# Altium integrated library NSC LDO.IntLib: 1202 symbols (part 23 of 27)
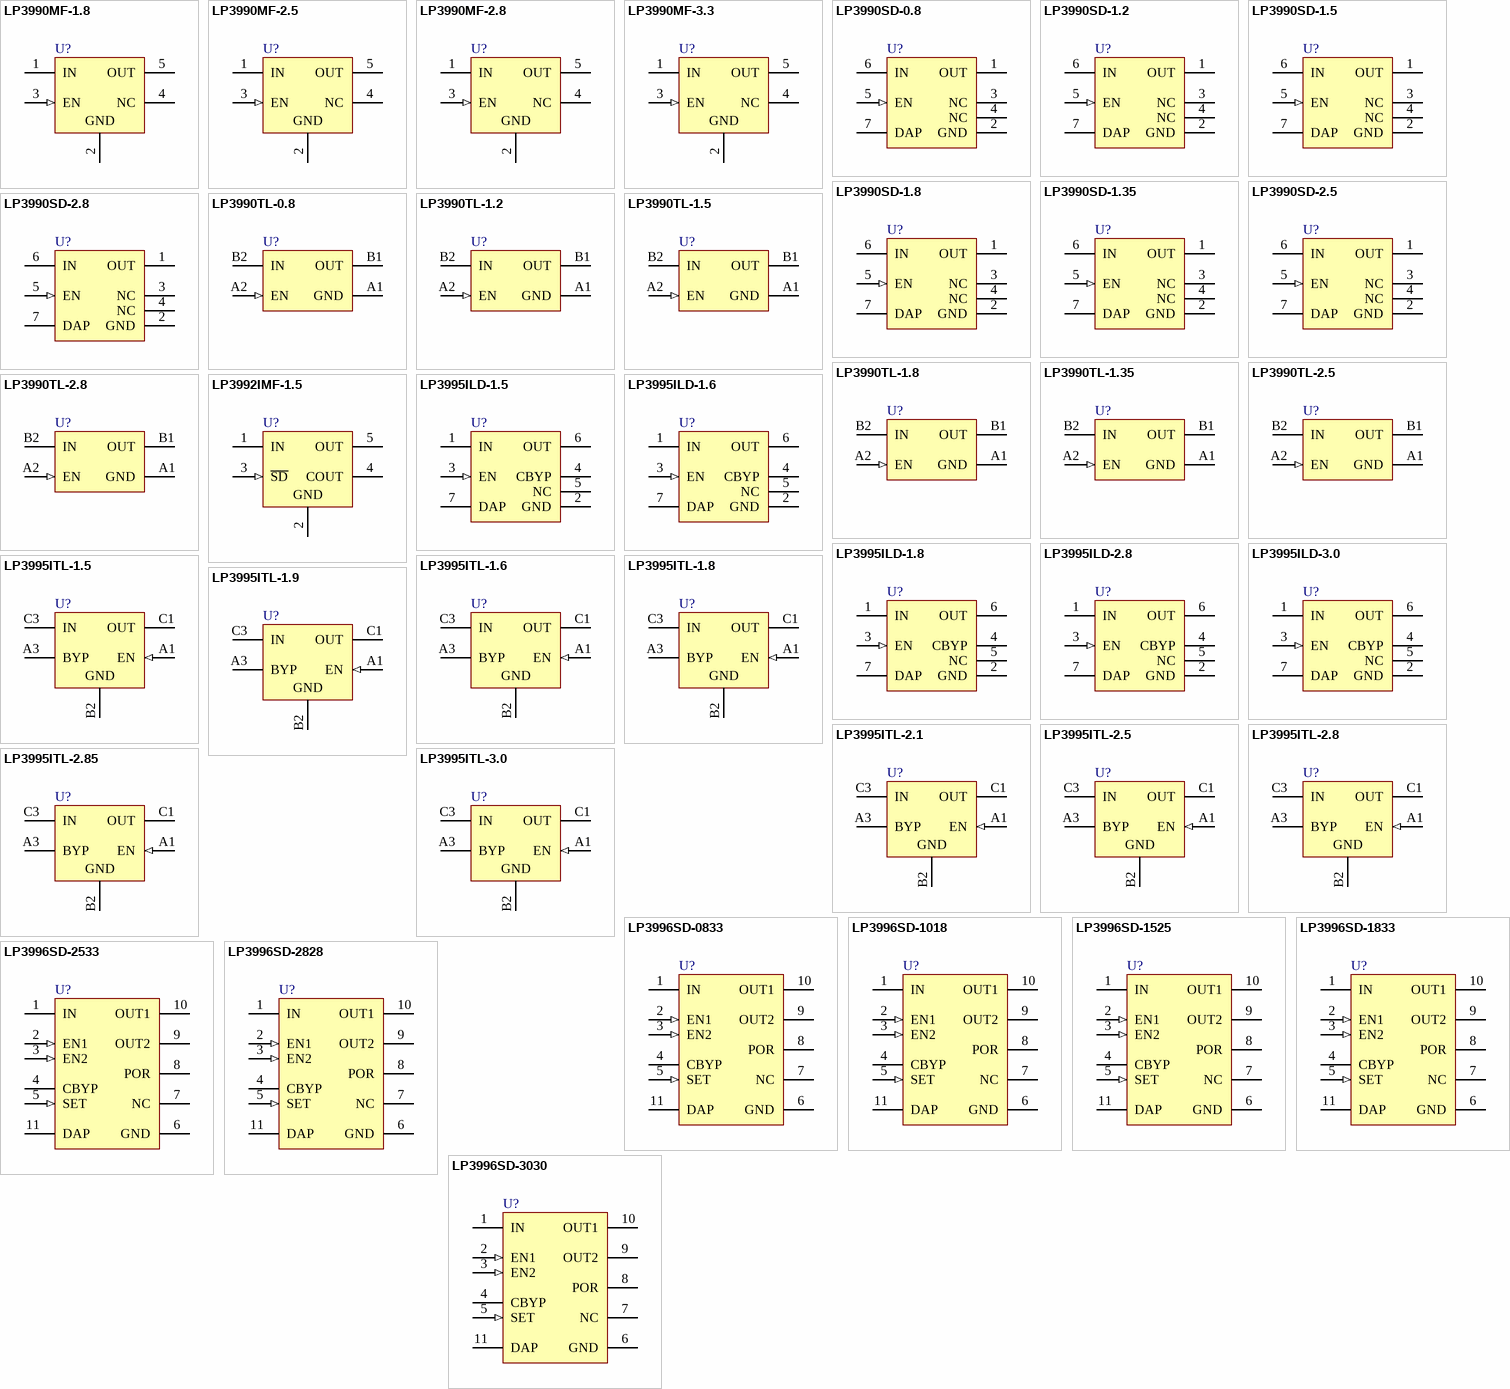
[diagram p52: symbols LP3990MF-1.8 to LP3996SD-3030]

## LP3995ITL-2.85
designator U?
Micropower 150mA CMOS Voltage Regulator with Active Shutdown.; PartNumber: LP3995ITL-2.85; Manufacturer: National Semiconductor; CompType: LDO IC; PackageTopMarking: XV*I 9; Published: 4-Dec-2008; DatasheetVersion: Jan-2008; PackageVersion: revC, Feb-2005; PackageReference: TLA05ADA; Publisher: Altium Limited; PackageDescription: Thin Micro SMD, 5 Bump (Large), 0.5mm Pitch; RoHS: Y; PinCount: 5; DigiKeyPartNumber: LP3995ITL-2.85CT-ND; ComponentLink1Description: LP3995 Datasheet; ComponentLink1URL: http://www.national.com/ds/LP/LP3995.pdf; ComponentLink2Description: LP3995 Web Page; ComponentLink2URL: http://www.national.com/pf/LP/LP3995.html; ComponentLink3Description: TLA05ADA Package Page; ComponentLink3URL: http://www.national.com/packaging/folders/tla05ada.html
footprint TLA05ADA (Micro SMD, 5-Leads, Body 1.45x1.01mm, Pitch 0.5mm, NSC Recommended)
pins: A1 EN (in), A3 BYP, B2 GND (power), C1 OUT (power), C3 IN (power)

## LP3995ITL-3.0
designator U?
Micropower 150mA CMOS Voltage Regulator with Active Shutdown.; PartNumber: LP3995ITL-3.0; Manufacturer: National Semiconductor; CompType: LDO IC; PackageTopMarking: XV*I 9; Published: 4-Dec-2008; DatasheetVersion: Jan-2008; PackageVersion: revC, Feb-2005; PackageReference: TLA05ADA; Publisher: Altium Limited; PackageDescription: Thin Micro SMD, 5 Bump (Large), 0.5mm Pitch; RoHS: Y; PinCount: 5; DigiKeyPartNumber: LP3995ITL-3.0CT-ND; ComponentLink1Description: LP3995 Datasheet; ComponentLink1URL: http://www.national.com/ds/LP/LP3995.pdf; ComponentLink2Description: LP3995 Web Page; ComponentLink2URL: http://www.national.com/pf/LP/LP3995.html; ComponentLink3Description: TLA05ADA Package Page; ComponentLink3URL: http://www.national.com/packaging/folders/tla05ada.html
footprint TLA05ADA (Micro SMD, 5-Leads, Body 1.45x1.01mm, Pitch 0.5mm, NSC Recommended)
pins: A1 EN (in), A3 BYP, B2 GND (power), C1 OUT (power), C3 IN (power)

## LP3996SD-0833
designator U?
Dual Linear Regulator with 300mA and 150mA Outputs and Power-On-Reset; PartNumber: LP3996SD-0833; Manufacturer: National Semiconductor; CompType: LDO IC; PackageTopMarking: ZXYTT*L167B; Published: 4-Dec-2008; DatasheetVersion: Jan-2008; PackageVersion: revA, Oct-2003; PackageReference: SDA10A; Publisher: Altium Limited; PackageDescription: LLP, Plastic, Dual, 3 x 3 x 0.8mm Body, 10 Lead, 0.5mm Pitch, No Pullback; RoHS: Y; PinCount: 10; DigiKeyPartNumber: LP3996SD-0833CT-ND; ComponentLink1Description: LP3996 Datasheet; ComponentLink1URL: http://www.national.com/ds/LP/LP3996.pdf; ComponentLink2Description: LP3996 Web Page; ComponentLink2URL: http://www.national.com/pf/LP/LP3996.html; ComponentLink3Description: SDA10A Package Page; ComponentLink3URL: http://www.national.com/packaging/folders/sda10a.html
footprint SDA10A (SON, 10-Leads, Body 3x3 mm, Pitch 0.5mm, NSC Recommended)
pins: 1 IN (power), 2 EN1 (in), 3 EN2 (in), 4 CBYP, 5 SET (in), 6 GND (power), 7 NC, 8 POR (oc), 9 OUT2 (power), 10 OUT1 (power), 11 DAP (power)

## LP3996SD-1018
designator U?
Dual Linear Regulator with 300mA and 150mA Outputs and Power-On-Reset; PartNumber: LP3996SD-1018; Manufacturer: National Semiconductor; CompType: LDO IC; PackageTopMarking: ZXYTT*L227B; Published: 4-Dec-2008; DatasheetVersion: Jan-2008; PackageVersion: revA, Oct-2003; PackageReference: SDA10A; Publisher: Altium Limited; PackageDescription: LLP, Plastic, Dual, 3 x 3 x 0.8mm Body, 10 Lead, 0.5mm Pitch, No Pullback; RoHS: Y; PinCount: 10; DigiKeyPartNumber: LP3996SD-1018-ND; ComponentLink1Description: LP3996 Datasheet; ComponentLink1URL: http://www.national.com/ds/LP/LP3996.pdf; ComponentLink2Description: LP3996 Web Page; ComponentLink2URL: http://www.national.com/pf/LP/LP3996.html; ComponentLink3Description: SDA10A Package Page; ComponentLink3URL: http://www.national.com/packaging/folders/sda10a.html
footprint SDA10A (SON, 10-Leads, Body 3x3 mm, Pitch 0.5mm, NSC Recommended)
pins: 1 IN (power), 2 EN1 (in), 3 EN2 (in), 4 CBYP, 5 SET (in), 6 GND (power), 7 NC, 8 POR (oc), 9 OUT2 (power), 10 OUT1 (power), 11 DAP (power)

## LP3996SD-1525
designator U?
Dual Linear Regulator with 300mA and 150mA Outputs and Power-On-Reset; PartNumber: LP3996SD-1525; Manufacturer: National Semiconductor; CompType: LDO IC; PackageTopMarking: ZXYTT*L168B; Published: 4-Dec-2008; DatasheetVersion: Jan-2008; PackageVersion: revA, Oct-2003; PackageReference: SDA10A; Publisher: Altium Limited; PackageDescription: LLP, Plastic, Dual, 3 x 3 x 0.8mm Body, 10 Lead, 0.5mm Pitch, No Pullback; RoHS: Y; PinCount: 10; DigiKeyPartNumber: LP3996SD-1525CT-ND; ComponentLink1Description: LP3996 Datasheet; ComponentLink1URL: http://www.national.com/ds/LP/LP3996.pdf; ComponentLink2Description: LP3996 Web Page; ComponentLink2URL: http://www.national.com/pf/LP/LP3996.html; ComponentLink3Description: SDA10A Package Page; ComponentLink3URL: http://www.national.com/packaging/folders/sda10a.html
footprint SDA10A (SON, 10-Leads, Body 3x3 mm, Pitch 0.5mm, NSC Recommended)
pins: 1 IN (power), 2 EN1 (in), 3 EN2 (in), 4 CBYP, 5 SET (in), 6 GND (power), 7 NC, 8 POR (oc), 9 OUT2 (power), 10 OUT1 (power), 11 DAP (power)

## LP3996SD-1833
designator U?
Dual Linear Regulator with 300mA and 150mA Outputs and Power-On-Reset; PartNumber: LP3996SD-1833; Manufacturer: National Semiconductor; CompType: LDO IC; PackageTopMarking: ZXYTT*L228B; Published: 4-Dec-2008; DatasheetVersion: Jan-2008; PackageVersion: revA, Oct-2003; PackageReference: SDA10A; Publisher: Altium Limited; PackageDescription: LLP, Plastic, Dual, 3 x 3 x 0.8mm Body, 10 Lead, 0.5mm Pitch, No Pullback; RoHS: Y; PinCount: 10; DigiKeyPartNumber: LP3996SD-1833-ND; ComponentLink1Description: LP3996 Datasheet; ComponentLink1URL: http://www.national.com/ds/LP/LP3996.pdf; ComponentLink2Description: LP3996 Web Page; ComponentLink2URL: http://www.national.com/pf/LP/LP3996.html; ComponentLink3Description: SDA10A Package Page; ComponentLink3URL: http://www.national.com/packaging/folders/sda10a.html
footprint SDA10A (SON, 10-Leads, Body 3x3 mm, Pitch 0.5mm, NSC Recommended)
pins: 1 IN (power), 2 EN1 (in), 3 EN2 (in), 4 CBYP, 5 SET (in), 6 GND (power), 7 NC, 8 POR (oc), 9 OUT2 (power), 10 OUT1 (power), 11 DAP (power)

## LP3996SD-2533
designator U?
Dual Linear Regulator with 300mA and 150mA Outputs and Power-On-Reset; PartNumber: LP3996SD-2533; Manufacturer: National Semiconductor; CompType: LDO IC; PackageTopMarking: ZXYTT*L229B; Published: 4-Dec-2008; DatasheetVersion: Jan-2008; PackageVersion: revA, Oct-2003; PackageReference: SDA10A; Publisher: Altium Limited; PackageDescription: LLP, Plastic, Dual, 3 x 3 x 0.8mm Body, 10 Lead, 0.5mm Pitch, No Pullback; RoHS: Y; PinCount: 10; DigiKeyPartNumber: LP3996SD-2533-ND; ComponentLink1Description: LP3996 Datasheet; ComponentLink1URL: http://www.national.com/ds/LP/LP3996.pdf; ComponentLink2Description: LP3996 Web Page; ComponentLink2URL: http://www.national.com/pf/LP/LP3996.html; ComponentLink3Description: SDA10A Package Page; ComponentLink3URL: http://www.national.com/packaging/folders/sda10a.html
footprint SDA10A (SON, 10-Leads, Body 3x3 mm, Pitch 0.5mm, NSC Recommended)
pins: 1 IN (power), 2 EN1 (in), 3 EN2 (in), 4 CBYP, 5 SET (in), 6 GND (power), 7 NC, 8 POR (oc), 9 OUT2 (power), 10 OUT1 (power), 11 DAP (power)

## LP3996SD-2828
designator U?
Dual Linear Regulator with 300mA and 150mA Outputs and Power-On-Reset; PartNumber: LP3996SD-2828; Manufacturer: National Semiconductor; CompType: LDO IC; PackageTopMarking: ZXYTT*L171B; Published: 4-Dec-2008; DatasheetVersion: Jan-2008; PackageVersion: revA, Oct-2003; PackageReference: SDA10A; Publisher: Altium Limited; PackageDescription: LLP, Plastic, Dual, 3 x 3 x 0.8mm Body, 10 Lead, 0.5mm Pitch, No Pullback; RoHS: Y; PinCount: 10; DigiKeyPartNumber: LP3996SD-2828CT-ND; ComponentLink1Description: LP3996 Datasheet; ComponentLink1URL: http://www.national.com/ds/LP/LP3996.pdf; ComponentLink2Description: LP3996 Web Page; ComponentLink2URL: http://www.national.com/pf/LP/LP3996.html; ComponentLink3Description: SDA10A Package Page; ComponentLink3URL: http://www.national.com/packaging/folders/sda10a.html
footprint SDA10A (SON, 10-Leads, Body 3x3 mm, Pitch 0.5mm, NSC Recommended)
pins: 1 IN (power), 2 EN1 (in), 3 EN2 (in), 4 CBYP, 5 SET (in), 6 GND (power), 7 NC, 8 POR (oc), 9 OUT2 (power), 10 OUT1 (power), 11 DAP (power)

## LP3996SD-3030
designator U?
Dual Linear Regulator with 300mA and 150mA Outputs and Power-On-Reset; PartNumber: LP3996SD-3030; Manufacturer: National Semiconductor; CompType: LDO IC; PackageTopMarking: ZXYTT*L172B; Published: 4-Dec-2008; DatasheetVersion: Jan-2008; PackageVersion: revA, Oct-2003; PackageReference: SDA10A; Publisher: Altium Limited; PackageDescription: LLP, Plastic, Dual, 3 x 3 x 0.8mm Body, 10 Lead, 0.5mm Pitch, No Pullback; RoHS: Y; PinCount: 10; DigiKeyPartNumber: LP3996SD-3030CT-ND; ComponentLink1Description: LP3996 Datasheet; ComponentLink1URL: http://www.national.com/ds/LP/LP3996.pdf; ComponentLink2Description: LP3996 Web Page; ComponentLink2URL: http://www.national.com/pf/LP/LP3996.html; ComponentLink3Description: SDA10A Package Page; ComponentLink3URL: http://www.national.com/packaging/folders/sda10a.html
footprint SDA10A (SON, 10-Leads, Body 3x3 mm, Pitch 0.5mm, NSC Recommended)
pins: 1 IN (power), 2 EN1 (in), 3 EN2 (in), 4 CBYP, 5 SET (in), 6 GND (power), 7 NC, 8 POR (oc), 9 OUT2 (power), 10 OUT1 (power), 11 DAP (power)

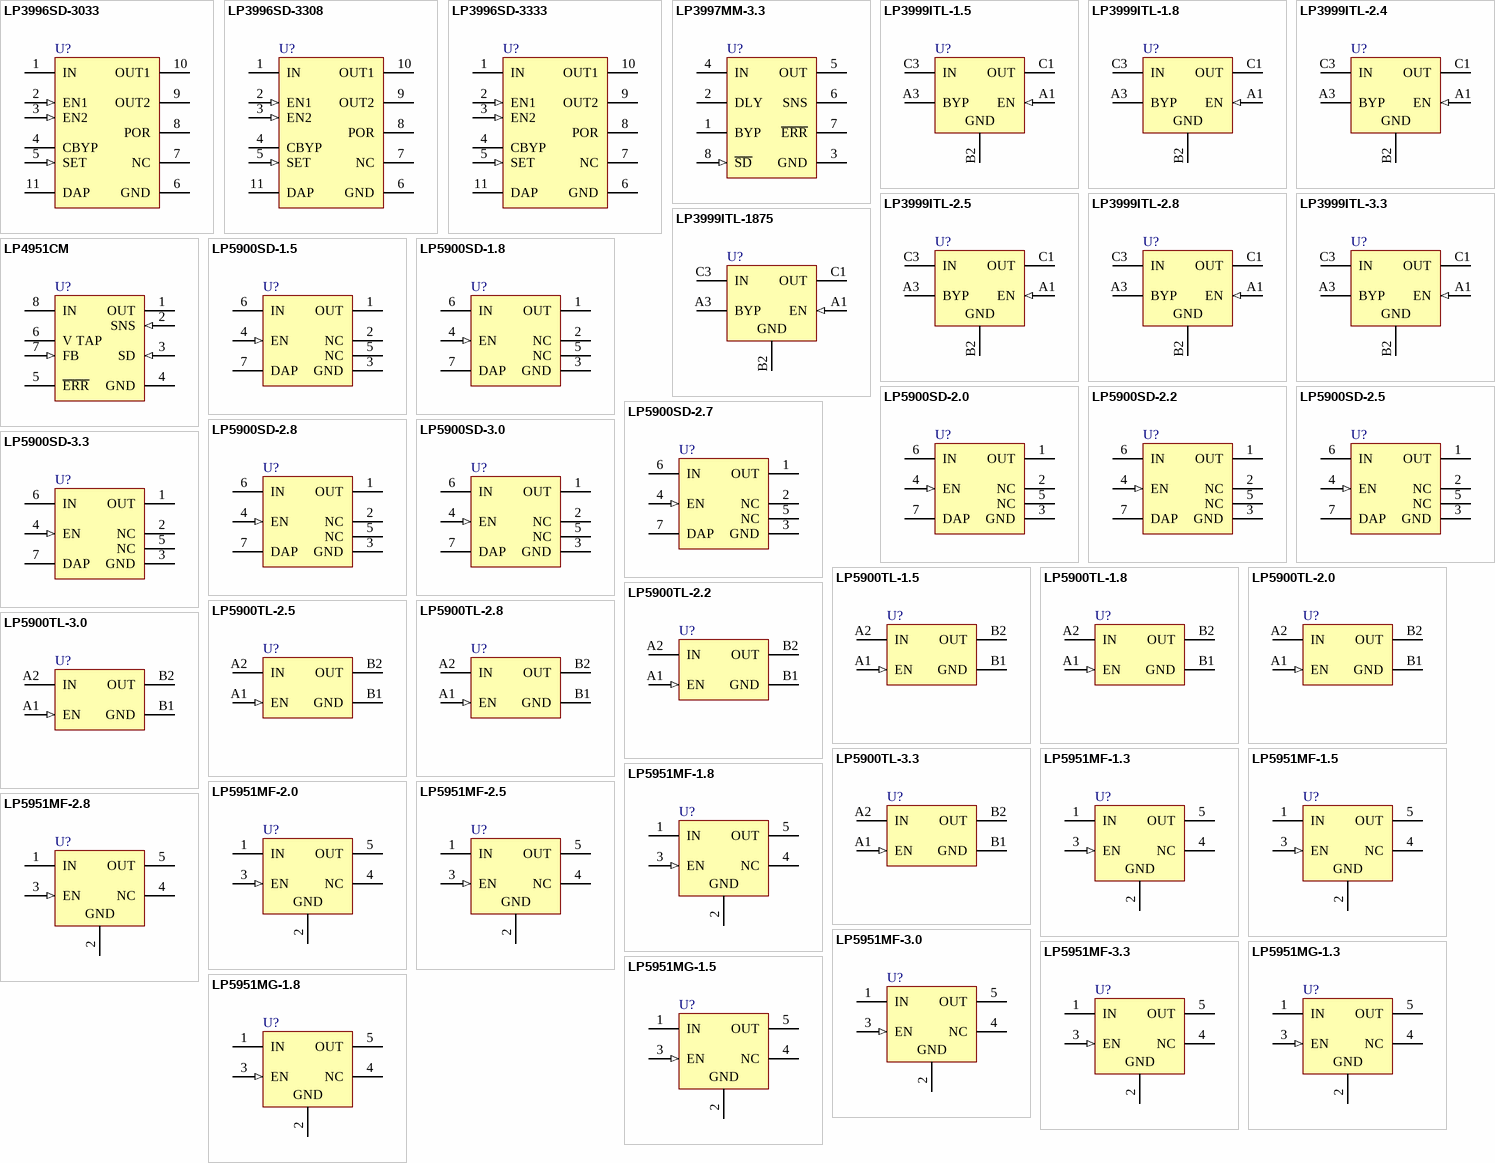
[diagram p25: symbols LP3996SD-3033 to LP5951MG-1.8]

## LP3996SD-3033
designator U?
Dual Linear Regulator with 300mA and 150mA Outputs and Power-On-Reset; PartNumber: LP3996SD-3033; Manufacturer: National Semiconductor; CompType: LDO IC; PackageTopMarking: ZXYTT*L170B; Published: 4-Dec-2008; DatasheetVersion: Jan-2008; PackageVersion: revA, Oct-2003; PackageReference: SDA10A; Publisher: Altium Limited; PackageDescription: LLP, Plastic, Dual, 3 x 3 x 0.8mm Body, 10 Lead, 0.5mm Pitch, No Pullback; RoHS: Y; PinCount: 10; DigiKeyPartNumber: LP3996SD-3033CT-ND; ComponentLink1Description: LP3996 Datasheet; ComponentLink1URL: http://www.national.com/ds/LP/LP3996.pdf; ComponentLink2Description: LP3996 Web Page; ComponentLink2URL: http://www.national.com/pf/LP/LP3996.html; ComponentLink3Description: SDA10A Package Page; ComponentLink3URL: http://www.national.com/packaging/folders/sda10a.html
footprint SDA10A (SON, 10-Leads, Body 3x3 mm, Pitch 0.5mm, NSC Recommended)
pins: 1 IN (power), 2 EN1 (in), 3 EN2 (in), 4 CBYP, 5 SET (in), 6 GND (power), 7 NC, 8 POR (oc), 9 OUT2 (power), 10 OUT1 (power), 11 DAP (power)

## LP3996SD-3308
designator U?
Dual Linear Regulator with 300mA and 150mA Outputs and Power-On-Reset; PartNumber: LP3996SD-3308; Manufacturer: National Semiconductor; CompType: LDO IC; PackageTopMarking: ZXYTT*L188B; Published: 4-Dec-2008; DatasheetVersion: Jan-2008; PackageVersion: revA, Oct-2003; PackageReference: SDA10A; Publisher: Altium Limited; PackageDescription: LLP, Plastic, Dual, 3 x 3 x 0.8mm Body, 10 Lead, 0.5mm Pitch, No Pullback; RoHS: Y; PinCount: 10; DigiKeyPartNumber: LP3996SD-3308CT-ND; ComponentLink1Description: LP3996 Datasheet; ComponentLink1URL: http://www.national.com/ds/LP/LP3996.pdf; ComponentLink2Description: LP3996 Web Page; ComponentLink2URL: http://www.national.com/pf/LP/LP3996.html; ComponentLink3Description: SDA10A Package Page; ComponentLink3URL: http://www.national.com/packaging/folders/sda10a.html
footprint SDA10A (SON, 10-Leads, Body 3x3 mm, Pitch 0.5mm, NSC Recommended)
pins: 1 IN (power), 2 EN1 (in), 3 EN2 (in), 4 CBYP, 5 SET (in), 6 GND (power), 7 NC, 8 POR (oc), 9 OUT2 (power), 10 OUT1 (power), 11 DAP (power)

## LP3996SD-3333
designator U?
Dual Linear Regulator with 300mA and 150mA Outputs and Power-On-Reset; PartNumber: LP3996SD-3333; Manufacturer: National Semiconductor; CompType: LDO IC; PackageTopMarking: ZXYTT*L173B; Published: 4-Dec-2008; DatasheetVersion: Jan-2008; PackageVersion: revA, Oct-2003; PackageReference: SDA10A; Publisher: Altium Limited; PackageDescription: LLP, Plastic, Dual, 3 x 3 x 0.8mm Body, 10 Lead, 0.5mm Pitch, No Pullback; RoHS: Y; PinCount: 10; DigiKeyPartNumber: LP3996SD-3333CT-ND; ComponentLink1Description: LP3996 Datasheet; ComponentLink1URL: http://www.national.com/ds/LP/LP3996.pdf; ComponentLink2Description: LP3996 Web Page; ComponentLink2URL: http://www.national.com/pf/LP/LP3996.html; ComponentLink3Description: SDA10A Package Page; ComponentLink3URL: http://www.national.com/packaging/folders/sda10a.html
footprint SDA10A (SON, 10-Leads, Body 3x3 mm, Pitch 0.5mm, NSC Recommended)
pins: 1 IN (power), 2 EN1 (in), 3 EN2 (in), 4 CBYP, 5 SET (in), 6 GND (power), 7 NC, 8 POR (oc), 9 OUT2 (power), 10 OUT1 (power), 11 DAP (power)

## LP3997MM-3.3
designator U?
Micropower 250mA CMOS LDO Regulator with Error Flag / Power-On-Reset; PartNumber: LP3997MM-3.3; Manufacturer: National Semiconductor; CompType: LDO IC; PackageTopMarking: ZXTT*SAKB; Published: 4-Dec-2008; DatasheetVersion: May-2005; PackageVersion: revF, Apr-2008; PackageReference: MUA08A; Publisher: Altium Limited; PackageDescription: MINI SOIC, .118 x .118 x .034in, 8 Lead, .0256in Pitch; RoHS: O; PinCount: 8; DigiKeyPartNumber: LP3997MM-3.3CT-ND; Code_JEDEC: MO-187-AA; ComponentLink1Description: LP3997 Datasheet; ComponentLink1URL: http://www.national.com/ds/LP/LP3997.pdf; ComponentLink2Description: LP3997 Web Page; ComponentLink2URL: http://www.national.com/pf/LP/LP3997.html; ComponentLink3Description: MUA08A Package Page; ComponentLink3URL: http://www.national.com/packaging/folders/mua08a.html
footprint MUA08A_N (TSOP, 8-Leads, Body 3x3mm, Pitch 0.65mm, IPC Medium Density)
footprint MUA08A_L (TSOP, 8-Leads, Body 3x3mm, Pitch 0.65mm, IPC High Density)
footprint MUA08A_M (TSOP, 8-Leads, Body 3x3mm, Pitch 0.65mm, IPC Low Density)
pins: 1 BYP, 2 DLY, 3 GND (power), 4 IN (power), 5 OUT (power), 6 SNS, 7 ~{ERR} (oc), 8 ~{SD} (in)

## LP3999ITL-1.5
designator U?
Low Noise 150mA Voltage Regulator for RF/Analog Applications; PartNumber: LP3999ITL-1.5; Manufacturer: National Semiconductor; CompType: LDO IC; PackageTopMarking: XV*I 9; Published: 4-Dec-2008; DatasheetVersion: Jul-2006; PackageVersion: revC, Feb-2005; PackageReference: TLA05ADA; Publisher: Altium Limited; PackageDescription: Thin Micro SMD, 5 Bump (Large), 0.5mm Pitch; RoHS: Y; PinCount: 5; DigiKeyPartNumber: LP3999ITL-1.5CT-ND; ComponentLink1Description: LP3999 Datasheet; ComponentLink1URL: http://www.national.com/ds/LP/LP3999.pdf; ComponentLink2Description: LP3999 Web Page; ComponentLink2URL: http://www.national.com/pf/LP/LP3999.html; ComponentLink3Description: TLA05ADA Package Page; ComponentLink3URL: http://www.national.com/packaging/folders/tla05ada.html
footprint TLA05ADA (Micro SMD, 5-Leads, Body 1.45x1.01mm, Pitch 0.5mm, NSC Recommended)
pins: A1 EN (in), A3 BYP, B2 GND (power), C1 OUT (power), C3 IN (power)

## LP3999ITL-1.8
designator U?
Low Noise 150mA Voltage Regulator for RF/Analog Applications; PartNumber: LP3999ITL-1.8; Manufacturer: National Semiconductor; CompType: LDO IC; PackageTopMarking: XV*I 9; Published: 4-Dec-2008; DatasheetVersion: Jul-2006; PackageVersion: revC, Feb-2005; PackageReference: TLA05ADA; Publisher: Altium Limited; PackageDescription: Thin Micro SMD, 5 Bump (Large), 0.5mm Pitch; RoHS: Y; PinCount: 5; DigiKeyPartNumber: LP3999ITL-1.8CT-ND; ComponentLink1Description: LP3999 Datasheet; ComponentLink1URL: http://www.national.com/ds/LP/LP3999.pdf; ComponentLink2Description: LP3999 Web Page; ComponentLink2URL: http://www.national.com/pf/LP/LP3999.html; ComponentLink3Description: TLA05ADA Package Page; ComponentLink3URL: http://www.national.com/packaging/folders/tla05ada.html
footprint TLA05ADA (Micro SMD, 5-Leads, Body 1.45x1.01mm, Pitch 0.5mm, NSC Recommended)
pins: A1 EN (in), A3 BYP, B2 GND (power), C1 OUT (power), C3 IN (power)

## LP3999ITL-2.4
designator U?
Low Noise 150mA Voltage Regulator for RF/Analog Applications; PartNumber: LP3999ITL-2.4; Manufacturer: National Semiconductor; CompType: LDO IC; PackageTopMarking: XV*I 9; Published: 4-Dec-2008; DatasheetVersion: Jul-2006; PackageVersion: revC, Feb-2005; PackageReference: TLA05ADA; Publisher: Altium Limited; PackageDescription: Thin Micro SMD, 5 Bump (Large), 0.5mm Pitch; RoHS: Y; PinCount: 5; DigiKeyPartNumber: LP3999ITL-2.4CT-ND; ComponentLink1Description: LP3999 Datasheet; ComponentLink1URL: http://www.national.com/ds/LP/LP3999.pdf; ComponentLink2Description: LP3999 Web Page; ComponentLink2URL: http://www.national.com/pf/LP/LP3999.html; ComponentLink3Description: TLA05ADA Package Page; ComponentLink3URL: http://www.national.com/packaging/folders/tla05ada.html
footprint TLA05ADA (Micro SMD, 5-Leads, Body 1.45x1.01mm, Pitch 0.5mm, NSC Recommended)
pins: A1 EN (in), A3 BYP, B2 GND (power), C1 OUT (power), C3 IN (power)

## LP3999ITL-2.5
designator U?
Low Noise 150mA Voltage Regulator for RF/Analog Applications; PartNumber: LP3999ITL-2.5; Manufacturer: National Semiconductor; CompType: LDO IC; PackageTopMarking: XV*I 9; Published: 4-Dec-2008; DatasheetVersion: Jul-2006; PackageVersion: revC, Feb-2005; PackageReference: TLA05ADA; Publisher: Altium Limited; PackageDescription: Thin Micro SMD, 5 Bump (Large), 0.5mm Pitch; RoHS: Y; PinCount: 5; DigiKeyPartNumber: LP3999ITL-2.5CT-ND; ComponentLink1Description: LP3999 Datasheet; ComponentLink1URL: http://www.national.com/ds/LP/LP3999.pdf; ComponentLink2Description: LP3999 Web Page; ComponentLink2URL: http://www.national.com/pf/LP/LP3999.html; ComponentLink3Description: TLA05ADA Package Page; ComponentLink3URL: http://www.national.com/packaging/folders/tla05ada.html
footprint TLA05ADA (Micro SMD, 5-Leads, Body 1.45x1.01mm, Pitch 0.5mm, NSC Recommended)
pins: A1 EN (in), A3 BYP, B2 GND (power), C1 OUT (power), C3 IN (power)

## LP3999ITL-2.8
designator U?
Low Noise 150mA Voltage Regulator for RF/Analog Applications; PartNumber: LP3999ITL-2.8; Manufacturer: National Semiconductor; CompType: LDO IC; PackageTopMarking: XV*I 9; Published: 4-Dec-2008; DatasheetVersion: Jul-2006; PackageVersion: revC, Feb-2005; PackageReference: TLA05ADA; Publisher: Altium Limited; PackageDescription: Thin Micro SMD, 5 Bump (Large), 0.5mm Pitch; RoHS: Y; PinCount: 5; DigiKeyPartNumber: LP3999ITL-2.8CT-ND; ComponentLink1Description: LP3999 Datasheet; ComponentLink1URL: http://www.national.com/ds/LP/LP3999.pdf; ComponentLink2Description: LP3999 Web Page; ComponentLink2URL: http://www.national.com/pf/LP/LP3999.html; ComponentLink3Description: TLA05ADA Package Page; ComponentLink3URL: http://www.national.com/packaging/folders/tla05ada.html
footprint TLA05ADA (Micro SMD, 5-Leads, Body 1.45x1.01mm, Pitch 0.5mm, NSC Recommended)
pins: A1 EN (in), A3 BYP, B2 GND (power), C1 OUT (power), C3 IN (power)

## LP3999ITL-3.3
designator U?
Low Noise 150mA Voltage Regulator for RF/Analog Applications; PartNumber: LP3999ITL-3.3; Manufacturer: National Semiconductor; CompType: LDO IC; PackageTopMarking: XV*I 9; Published: 4-Dec-2008; DatasheetVersion: Jul-2006; PackageVersion: revC, Feb-2005; PackageReference: TLA05ADA; Publisher: Altium Limited; PackageDescription: Thin Micro SMD, 5 Bump (Large), 0.5mm Pitch; RoHS: Y; PinCount: 5; DigiKeyPartNumber: LP3999ITL-3.3CT-ND; ComponentLink1Description: LP3999 Datasheet; ComponentLink1URL: http://www.national.com/ds/LP/LP3999.pdf; ComponentLink2Description: LP3999 Web Page; ComponentLink2URL: http://www.national.com/pf/LP/LP3999.html; ComponentLink3Description: TLA05ADA Package Page; ComponentLink3URL: http://www.national.com/packaging/folders/tla05ada.html
footprint TLA05ADA (Micro SMD, 5-Leads, Body 1.45x1.01mm, Pitch 0.5mm, NSC Recommended)
pins: A1 EN (in), A3 BYP, B2 GND (power), C1 OUT (power), C3 IN (power)

## LP3999ITL-1875
designator U?
Low Noise 150mA Voltage Regulator for RF/Analog Applications; PartNumber: LP3999ITL-1875; Manufacturer: National Semiconductor; CompType: LDO IC; PackageTopMarking: XV*I 9; Published: 4-Dec-2008; DatasheetVersion: Jul-2006; PackageVersion: revC, Feb-2005; PackageReference: TLA05ADA; Publisher: Altium Limited; PackageDescription: Thin Micro SMD, 5 Bump (Large), 0.5mm Pitch; RoHS: Y; PinCount: 5; DigiKeyPartNumber: LP3999ITL-1875CT-ND; ComponentLink1Description: LP3999 Datasheet; ComponentLink1URL: http://www.national.com/ds/LP/LP3999.pdf; ComponentLink2Description: LP3999 Web Page; ComponentLink2URL: http://www.national.com/pf/LP/LP3999.html; ComponentLink3Description: TLA05ADA Package Page; ComponentLink3URL: http://www.national.com/packaging/folders/tla05ada.html
footprint TLA05ADA (Micro SMD, 5-Leads, Body 1.45x1.01mm, Pitch 0.5mm, NSC Recommended)
pins: A1 EN (in), A3 BYP, B2 GND (power), C1 OUT (power), C3 IN (power)

## LP4951CM
designator U?
Adjustable Micropower Voltage Regulators; PartNumber: LP4951CM; Manufacturer: National Semiconductor; CompType: LDO IC; PackageTopMarking: NSZXTT*LP495*1CM; Published: 4-Dec-2008; DatasheetVersion: Aug-2005; PackageVersion: revL, Sep-2006; PackageReference: M08A; Publisher: Altium Limited; PackageDescription: SOIC Narrow, 4.9 x 3.9 x 1.45mm, 8 Lead, 1.27mm Pitch; RoHS: Y; PinCount: 8; DigiKeyPartNumber: LP4951CM-ND; Code_JEDEC: MS-012-AA; Code_IPC: SOIC127P600-8; ComponentLink1Description: LP4951C Datasheet; ComponentLink1URL: http://www.national.com/ds/LP/LP4951C.pdf; ComponentLink2Description: LP4951C Web Page; ComponentLink2URL: http://www.national.com/pf/LP/LP4951C.html; ComponentLink3Description: M08A Package Page; ComponentLink3URL: http://www.national.com/packaging/folders/m08a.html
footprint M08A_N (SOIC, 8-Leads, Body 4.9x3.9mm, Pitch 1.27mm, IPC Medium Density)
footprint M08A_L (SOIC, 8-Leads, Body 4.9x3.9mm, Pitch 1.27mm, IPC High Density)
footprint M08A_M (SOIC, 8-Leads, Body 4.9x3.9mm, Pitch 1.27mm, IPC Low Density)
pins: 1 OUT (power), 2 SNS (in), 3 SD (in), 4 GND (power), 5 ~{ERR} (oc), 6 V TAP, 7 FB (in), 8 IN (power)

## LP5900SD-1.5
designator U?
Ultra Low Noise, 150mA Linear Regulator for RF/Analog Circuits Requires No Bypass Capacitor; PartNumber: LP5900SD-1.5; Manufacturer: National Semiconductor; CompType: LDO IC; PackageTopMarking: XTT*L15; Published: 4-Dec-2008; DatasheetVersion: Jun-2008; PackageVersion: revA, Nov-2003; PackageReference: SDB06A; Publisher: Altium Limited; PackageDescription: LLP, Plastic, Dual, 2.2 x 2.5 x 0.8mm Body, 6 Lead, 0.65mm Pitch, No Pullback; RoHS: Y; PinCount: 6; DigiKeyPartNumber: LP5900SD-1.5CT-ND; ComponentLink1Description: LP5900 Datasheet; ComponentLink1URL: http://www.national.com/ds/LP/LP5900.pdf; ComponentLink2Description: LP5900 Web Page; ComponentLink2URL: http://www.national.com/pf/LP/LP5900.html; ComponentLink3Description: SDB06A Package Page; ComponentLink3URL: http://www.national.com/packaging/folders/sdb06a.html
footprint SDB06A (SON, 6-Leads, Body 2.2x2.5mm, Pitch 0.65mm, NSC Recommended (SC-70 Land))
pins: 1 OUT (power), 2 NC, 3 GND (power), 4 EN (in), 5 NC, 6 IN (power), 7 DAP (power)

## LP5900SD-1.8
designator U?
Ultra Low Noise, 150mA Linear Regulator for RF/Analog Circuits Requires No Bypass Capacitor; PartNumber: LP5900SD-1.8; Manufacturer: National Semiconductor; CompType: LDO IC; PackageTopMarking: XTT*L17; Published: 4-Dec-2008; DatasheetVersion: Jun-2008; PackageVersion: revA, Nov-2003; PackageReference: SDB06A; Publisher: Altium Limited; PackageDescription: LLP, Plastic, Dual, 2.2 x 2.5 x 0.8mm Body, 6 Lead, 0.65mm Pitch, No Pullback; RoHS: Y; PinCount: 6; DigiKeyPartNumber: LP5900SD-1.8CT-ND; ComponentLink1Description: LP5900 Datasheet; ComponentLink1URL: http://www.national.com/ds/LP/LP5900.pdf; ComponentLink2Description: LP5900 Web Page; ComponentLink2URL: http://www.national.com/pf/LP/LP5900.html; ComponentLink3Description: SDB06A Package Page; ComponentLink3URL: http://www.national.com/packaging/folders/sdb06a.html
footprint SDB06A (SON, 6-Leads, Body 2.2x2.5mm, Pitch 0.65mm, NSC Recommended (SC-70 Land))
pins: 1 OUT (power), 2 NC, 3 GND (power), 4 EN (in), 5 NC, 6 IN (power), 7 DAP (power)

## LP5900SD-2.0
designator U?
Ultra Low Noise, 150mA Linear Regulator for RF/Analog Circuits Requires No Bypass Capacitor; PartNumber: LP5900SD-2.0; Manufacturer: National Semiconductor; CompType: LDO IC; PackageTopMarking: XTT*L18; Published: 4-Dec-2008; DatasheetVersion: Jun-2008; PackageVersion: revA, Nov-2003; PackageReference: SDB06A; Publisher: Altium Limited; PackageDescription: LLP, Plastic, Dual, 2.2 x 2.5 x 0.8mm Body, 6 Lead, 0.65mm Pitch, No Pullback; RoHS: Y; PinCount: 6; DigiKeyPartNumber: LP5900SD-2.0CT-ND; ComponentLink1Description: LP5900 Datasheet; ComponentLink1URL: http://www.national.com/ds/LP/LP5900.pdf; ComponentLink2Description: LP5900 Web Page; ComponentLink2URL: http://www.national.com/pf/LP/LP5900.html; ComponentLink3Description: SDB06A Package Page; ComponentLink3URL: http://www.national.com/packaging/folders/sdb06a.html
footprint SDB06A (SON, 6-Leads, Body 2.2x2.5mm, Pitch 0.65mm, NSC Recommended (SC-70 Land))
pins: 1 OUT (power), 2 NC, 3 GND (power), 4 EN (in), 5 NC, 6 IN (power), 7 DAP (power)

## LP5900SD-2.2
designator U?
Ultra Low Noise, 150mA Linear Regulator for RF/Analog Circuits Requires No Bypass Capacitor; PartNumber: LP5900SD-2.2; Manufacturer: National Semiconductor; CompType: LDO IC; PackageTopMarking: XTT*L19; Published: 4-Dec-2008; DatasheetVersion: Jun-2008; PackageVersion: revA, Nov-2003; PackageReference: SDB06A; Publisher: Altium Limited; PackageDescription: LLP, Plastic, Dual, 2.2 x 2.5 x 0.8mm Body, 6 Lead, 0.65mm Pitch, No Pullback; RoHS: Y; PinCount: 6; DigiKeyPartNumber: LP5900SD-2.2CT-ND; ComponentLink1Description: LP5900 Datasheet; ComponentLink1URL: http://www.national.com/ds/LP/LP5900.pdf; ComponentLink2Description: LP5900 Web Page; ComponentLink2URL: http://www.national.com/pf/LP/LP5900.html; ComponentLink3Description: SDB06A Package Page; ComponentLink3URL: http://www.national.com/packaging/folders/sdb06a.html
footprint SDB06A (SON, 6-Leads, Body 2.2x2.5mm, Pitch 0.65mm, NSC Recommended (SC-70 Land))
pins: 1 OUT (power), 2 NC, 3 GND (power), 4 EN (in), 5 NC, 6 IN (power), 7 DAP (power)

## LP5900SD-2.5
designator U?
Ultra Low Noise, 150mA Linear Regulator for RF/Analog Circuits Requires No Bypass Capacitor; PartNumber: LP5900SD-2.5; Manufacturer: National Semiconductor; CompType: LDO IC; PackageTopMarking: XTT*L13; Published: 4-Dec-2008; DatasheetVersion: Jun-2008; PackageVersion: revA, Nov-2003; PackageReference: SDB06A; Publisher: Altium Limited; PackageDescription: LLP, Plastic, Dual, 2.2 x 2.5 x 0.8mm Body, 6 Lead, 0.65mm Pitch, No Pullback; RoHS: Y; PinCount: 6; DigiKeyPartNumber: LP5900SD-2.5CT-ND; ComponentLink1Description: LP5900 Datasheet; ComponentLink1URL: http://www.national.com/ds/LP/LP5900.pdf; ComponentLink2Description: LP5900 Web Page; ComponentLink2URL: http://www.national.com/pf/LP/LP5900.html; ComponentLink3Description: SDB06A Package Page; ComponentLink3URL: http://www.national.com/packaging/folders/sdb06a.html
footprint SDB06A (SON, 6-Leads, Body 2.2x2.5mm, Pitch 0.65mm, NSC Recommended (SC-70 Land))
pins: 1 OUT (power), 2 NC, 3 GND (power), 4 EN (in), 5 NC, 6 IN (power), 7 DAP (power)

## LP5900SD-2.7
designator U?
Ultra Low Noise, 150mA Linear Regulator for RF/Analog Circuits Requires No Bypass Capacitor; PartNumber: LP5900SD-2.7; Manufacturer: National Semiconductor; CompType: LDO IC; PackageTopMarking: XTT*L14; Published: 4-Dec-2008; DatasheetVersion: Jun-2008; PackageVersion: revA, Nov-2003; PackageReference: SDB06A; Publisher: Altium Limited; PackageDescription: LLP, Plastic, Dual, 2.2 x 2.5 x 0.8mm Body, 6 Lead, 0.65mm Pitch, No Pullback; RoHS: Y; PinCount: 6; DigiKeyPartNumber: LP5900SD-2.7CT-ND; ComponentLink1Description: LP5900 Datasheet; ComponentLink1URL: http://www.national.com/ds/LP/LP5900.pdf; ComponentLink2Description: LP5900 Web Page; ComponentLink2URL: http://www.national.com/pf/LP/LP5900.html; ComponentLink3Description: SDB06A Package Page; ComponentLink3URL: http://www.national.com/packaging/folders/sdb06a.html
footprint SDB06A (SON, 6-Leads, Body 2.2x2.5mm, Pitch 0.65mm, NSC Recommended (SC-70 Land))
pins: 1 OUT (power), 2 NC, 3 GND (power), 4 EN (in), 5 NC, 6 IN (power), 7 DAP (power)

## LP5900SD-2.8
designator U?
Ultra Low Noise, 150mA Linear Regulator for RF/Analog Circuits Requires No Bypass Capacitor; PartNumber: LP5900SD-2.8; Manufacturer: National Semiconductor; CompType: LDO IC; PackageTopMarking: XTT*L12; Published: 4-Dec-2008; DatasheetVersion: Jun-2008; PackageVersion: revA, Nov-2003; PackageReference: SDB06A; Publisher: Altium Limited; PackageDescription: LLP, Plastic, Dual, 2.2 x 2.5 x 0.8mm Body, 6 Lead, 0.65mm Pitch, No Pullback; RoHS: Y; PinCount: 6; DigiKeyPartNumber: LP5900SD-2.8CT-ND; ComponentLink1Description: LP5900 Datasheet; ComponentLink1URL: http://www.national.com/ds/LP/LP5900.pdf; ComponentLink2Description: LP5900 Web Page; ComponentLink2URL: http://www.national.com/pf/LP/LP5900.html; ComponentLink3Description: SDB06A Package Page; ComponentLink3URL: http://www.national.com/packaging/folders/sdb06a.html
footprint SDB06A (SON, 6-Leads, Body 2.2x2.5mm, Pitch 0.65mm, NSC Recommended (SC-70 Land))
pins: 1 OUT (power), 2 NC, 3 GND (power), 4 EN (in), 5 NC, 6 IN (power), 7 DAP (power)

## LP5900SD-3.0
designator U?
Ultra Low Noise, 150mA Linear Regulator for RF/Analog Circuits Requires No Bypass Capacitor; PartNumber: LP5900SD-3.0; Manufacturer: National Semiconductor; CompType: LDO IC; PackageTopMarking: XTT*L20; Published: 4-Dec-2008; DatasheetVersion: Jun-2008; PackageVersion: revA, Nov-2003; PackageReference: SDB06A; Publisher: Altium Limited; PackageDescription: LLP, Plastic, Dual, 2.2 x 2.5 x 0.8mm Body, 6 Lead, 0.65mm Pitch, No Pullback; RoHS: Y; PinCount: 6; DigiKeyPartNumber: LP5900SD-3.0CT-ND; ComponentLink1Description: LP5900 Datasheet; ComponentLink1URL: http://www.national.com/ds/LP/LP5900.pdf; ComponentLink2Description: LP5900 Web Page; ComponentLink2URL: http://www.national.com/pf/LP/LP5900.html; ComponentLink3Description: SDB06A Package Page; ComponentLink3URL: http://www.national.com/packaging/folders/sdb06a.html
footprint SDB06A (SON, 6-Leads, Body 2.2x2.5mm, Pitch 0.65mm, NSC Recommended (SC-70 Land))
pins: 1 OUT (power), 2 NC, 3 GND (power), 4 EN (in), 5 NC, 6 IN (power), 7 DAP (power)

## LP5900SD-3.3
designator U?
Ultra Low Noise, 150mA Linear Regulator for RF/Analog Circuits Requires No Bypass Capacitor; PartNumber: LP5900SD-3.3; Manufacturer: National Semiconductor; CompType: LDO IC; PackageTopMarking: XTT*L16; Published: 4-Dec-2008; DatasheetVersion: Jun-2008; PackageVersion: revA, Nov-2003; PackageReference: SDB06A; Publisher: Altium Limited; PackageDescription: LLP, Plastic, Dual, 2.2 x 2.5 x 0.8mm Body, 6 Lead, 0.65mm Pitch, No Pullback; RoHS: Y; PinCount: 6; DigiKeyPartNumber: LP5900SD-3.3CT-ND; ComponentLink1Description: LP5900 Datasheet; ComponentLink1URL: http://www.national.com/ds/LP/LP5900.pdf; ComponentLink2Description: LP5900 Web Page; ComponentLink2URL: http://www.national.com/pf/LP/LP5900.html; ComponentLink3Description: SDB06A Package Page; ComponentLink3URL: http://www.national.com/packaging/folders/sdb06a.html
footprint SDB06A (SON, 6-Leads, Body 2.2x2.5mm, Pitch 0.65mm, NSC Recommended (SC-70 Land))
pins: 1 OUT (power), 2 NC, 3 GND (power), 4 EN (in), 5 NC, 6 IN (power), 7 DAP (power)

## LP5900TL-1.5
designator U?
Ultra Low Noise, 150mA Linear Regulator for RF/Analog Circuits Requires No Bypass Capacitor; PartNumber: LP5900TL-1.5; Manufacturer: National Semiconductor; CompType: LDO IC; PackageTopMarking: X*I; Published: 4-Dec-2008; DatasheetVersion: Jun-2008; PackageVersion: revD, Mar-2005; PackageReference: TLA04BCA; Publisher: Altium Limited; PackageDescription: Thin Micro SMD, 4 Bump (Large), 0.5mm Pitch; RoHS: Y; PinCount: 4; DigiKeyPartNumber: LP5900TL-1.5CT-ND; Code_JEDEC: MO-211-BA; ComponentLink1Description: LP5900 Datasheet; ComponentLink1URL: http://www.national.com/ds/LP/LP5900.pdf; ComponentLink2Description: LP5900 Web Page; ComponentLink2URL: http://www.national.com/pf/LP/LP5900.html; ComponentLink3Description: TLA04BCA Package Page; ComponentLink3URL: http://www.national.com/packaging/folders/tla04bca.html
footprint TLA04BCA (Micro SMD, 4-Leads, Body 1.07x1.04mm, Pitch 0.5mm, NSC Recommended)
pins: A1 EN (in), A2 IN (power), B1 GND (power), B2 OUT (power)

## LP5900TL-1.8
designator U?
Ultra Low Noise, 150mA Linear Regulator for RF/Analog Circuits Requires No Bypass Capacitor; PartNumber: LP5900TL-1.8; Manufacturer: National Semiconductor; CompType: LDO IC; PackageTopMarking: X*I; Published: 4-Dec-2008; DatasheetVersion: Jun-2008; PackageVersion: revD, Mar-2005; PackageReference: TLA04BCA; Publisher: Altium Limited; PackageDescription: Thin Micro SMD, 4 Bump (Large), 0.5mm Pitch; RoHS: Y; PinCount: 4; DigiKeyPartNumber: LP5900TL-1.8CT-ND; Code_JEDEC: MO-211-BA; ComponentLink1Description: LP5900 Datasheet; ComponentLink1URL: http://www.national.com/ds/LP/LP5900.pdf; ComponentLink2Description: LP5900 Web Page; ComponentLink2URL: http://www.national.com/pf/LP/LP5900.html; ComponentLink3Description: TLA04BCA Package Page; ComponentLink3URL: http://www.national.com/packaging/folders/tla04bca.html
footprint TLA04BCA (Micro SMD, 4-Leads, Body 1.07x1.04mm, Pitch 0.5mm, NSC Recommended)
pins: A1 EN (in), A2 IN (power), B1 GND (power), B2 OUT (power)

## LP5900TL-2.0
designator U?
Ultra Low Noise, 150mA Linear Regulator for RF/Analog Circuits Requires No Bypass Capacitor; PartNumber: LP5900TL-2.0; Manufacturer: National Semiconductor; CompType: LDO IC; PackageTopMarking: X*I; Published: 4-Dec-2008; DatasheetVersion: Jun-2008; PackageVersion: revD, Mar-2005; PackageReference: TLA04BCA; Publisher: Altium Limited; PackageDescription: Thin Micro SMD, 4 Bump (Large), 0.5mm Pitch; RoHS: Y; PinCount: 4; DigiKeyPartNumber: LP5900TL-2.0CT-ND; Code_JEDEC: MO-211-BA; ComponentLink1Description: LP5900 Datasheet; ComponentLink1URL: http://www.national.com/ds/LP/LP5900.pdf; ComponentLink2Description: LP5900 Web Page; ComponentLink2URL: http://www.national.com/pf/LP/LP5900.html; ComponentLink3Description: TLA04BCA Package Page; ComponentLink3URL: http://www.national.com/packaging/folders/tla04bca.html
footprint TLA04BCA (Micro SMD, 4-Leads, Body 1.07x1.04mm, Pitch 0.5mm, NSC Recommended)
pins: A1 EN (in), A2 IN (power), B1 GND (power), B2 OUT (power)

## LP5900TL-2.2
designator U?
Ultra Low Noise, 150mA Linear Regulator for RF/Analog Circuits Requires No Bypass Capacitor; PartNumber: LP5900TL-2.2; Manufacturer: National Semiconductor; CompType: LDO IC; PackageTopMarking: X*I; Published: 4-Dec-2008; DatasheetVersion: Jun-2008; PackageVersion: revD, Mar-2005; PackageReference: TLA04BCA; Publisher: Altium Limited; PackageDescription: Thin Micro SMD, 4 Bump (Large), 0.5mm Pitch; RoHS: Y; PinCount: 4; DigiKeyPartNumber: LP5900TL-2.2CT-ND; Code_JEDEC: MO-211-BA; ComponentLink1Description: LP5900 Datasheet; ComponentLink1URL: http://www.national.com/ds/LP/LP5900.pdf; ComponentLink2Description: LP5900 Web Page; ComponentLink2URL: http://www.national.com/pf/LP/LP5900.html; ComponentLink3Description: TLA04BCA Package Page; ComponentLink3URL: http://www.national.com/packaging/folders/tla04bca.html
footprint TLA04BCA (Micro SMD, 4-Leads, Body 1.07x1.04mm, Pitch 0.5mm, NSC Recommended)
pins: A1 EN (in), A2 IN (power), B1 GND (power), B2 OUT (power)

## LP5900TL-2.5
designator U?
Ultra Low Noise, 150mA Linear Regulator for RF/Analog Circuits Requires No Bypass Capacitor; PartNumber: LP5900TL-2.5; Manufacturer: National Semiconductor; CompType: LDO IC; PackageTopMarking: X*I; Published: 4-Dec-2008; DatasheetVersion: Jun-2008; PackageVersion: revD, Mar-2005; PackageReference: TLA04BCA; Publisher: Altium Limited; PackageDescription: Thin Micro SMD, 4 Bump (Large), 0.5mm Pitch; RoHS: Y; PinCount: 4; DigiKeyPartNumber: LP5900TL-2.5CT-ND; Code_JEDEC: MO-211-BA; ComponentLink1Description: LP5900 Datasheet; ComponentLink1URL: http://www.national.com/ds/LP/LP5900.pdf; ComponentLink2Description: LP5900 Web Page; ComponentLink2URL: http://www.national.com/pf/LP/LP5900.html; ComponentLink3Description: TLA04BCA Package Page; ComponentLink3URL: http://www.national.com/packaging/folders/tla04bca.html
footprint TLA04BCA (Micro SMD, 4-Leads, Body 1.07x1.04mm, Pitch 0.5mm, NSC Recommended)
pins: A1 EN (in), A2 IN (power), B1 GND (power), B2 OUT (power)

## LP5900TL-2.8
designator U?
Ultra Low Noise, 150mA Linear Regulator for RF/Analog Circuits Requires No Bypass Capacitor; PartNumber: LP5900TL-2.8; Manufacturer: National Semiconductor; CompType: LDO IC; PackageTopMarking: X*I; Published: 4-Dec-2008; DatasheetVersion: Jun-2008; PackageVersion: revD, Mar-2005; PackageReference: TLA04BCA; Publisher: Altium Limited; PackageDescription: Thin Micro SMD, 4 Bump (Large), 0.5mm Pitch; RoHS: Y; PinCount: 4; DigiKeyPartNumber: LP5900TL-2.8CT-ND; Code_JEDEC: MO-211-BA; ComponentLink1Description: LP5900 Datasheet; ComponentLink1URL: http://www.national.com/ds/LP/LP5900.pdf; ComponentLink2Description: LP5900 Web Page; ComponentLink2URL: http://www.national.com/pf/LP/LP5900.html; ComponentLink3Description: TLA04BCA Package Page; ComponentLink3URL: http://www.national.com/packaging/folders/tla04bca.html
footprint TLA04BCA (Micro SMD, 4-Leads, Body 1.07x1.04mm, Pitch 0.5mm, NSC Recommended)
pins: A1 EN (in), A2 IN (power), B1 GND (power), B2 OUT (power)

## LP5900TL-3.0
designator U?
Ultra Low Noise, 150mA Linear Regulator for RF/Analog Circuits Requires No Bypass Capacitor; PartNumber: LP5900TL-3.0; Manufacturer: National Semiconductor; CompType: LDO IC; PackageTopMarking: X*I; Published: 4-Dec-2008; DatasheetVersion: Jun-2008; PackageVersion: revD, Mar-2005; PackageReference: TLA04BCA; Publisher: Altium Limited; PackageDescription: Thin Micro SMD, 4 Bump (Large), 0.5mm Pitch; RoHS: Y; PinCount: 4; DigiKeyPartNumber: LP5900TL-3.0CT-ND; Code_JEDEC: MO-211-BA; ComponentLink1Description: LP5900 Datasheet; ComponentLink1URL: http://www.national.com/ds/LP/LP5900.pdf; ComponentLink2Description: LP5900 Web Page; ComponentLink2URL: http://www.national.com/pf/LP/LP5900.html; ComponentLink3Description: TLA04BCA Package Page; ComponentLink3URL: http://www.national.com/packaging/folders/tla04bca.html
footprint TLA04BCA (Micro SMD, 4-Leads, Body 1.07x1.04mm, Pitch 0.5mm, NSC Recommended)
pins: A1 EN (in), A2 IN (power), B1 GND (power), B2 OUT (power)

## LP5900TL-3.3
designator U?
Ultra Low Noise, 150mA Linear Regulator for RF/Analog Circuits Requires No Bypass Capacitor; PartNumber: LP5900TL-3.3; Manufacturer: National Semiconductor; CompType: LDO IC; PackageTopMarking: X*I; Published: 4-Dec-2008; DatasheetVersion: Jun-2008; PackageVersion: revD, Mar-2005; PackageReference: TLA04BCA; Publisher: Altium Limited; PackageDescription: Thin Micro SMD, 4 Bump (Large), 0.5mm Pitch; RoHS: Y; PinCount: 4; DigiKeyPartNumber: LP5900TL-3.3CT-ND; Code_JEDEC: MO-211-BA; ComponentLink1Description: LP5900 Datasheet; ComponentLink1URL: http://www.national.com/ds/LP/LP5900.pdf; ComponentLink2Description: LP5900 Web Page; ComponentLink2URL: http://www.national.com/pf/LP/LP5900.html; ComponentLink3Description: TLA04BCA Package Page; ComponentLink3URL: http://www.national.com/packaging/folders/tla04bca.html
footprint TLA04BCA (Micro SMD, 4-Leads, Body 1.07x1.04mm, Pitch 0.5mm, NSC Recommended)
pins: A1 EN (in), A2 IN (power), B1 GND (power), B2 OUT (power)

## LP5951MF-1.3
designator U?
Micropower, 150mA Low-Dropout CMOS Voltage Regulator; PartNumber: LP5951MF-1.3; Manufacturer: National Semiconductor; CompType: LDO IC; PackageTopMarking: LKRB*XTT; Published: 4-Dec-2008; DatasheetVersion: May-2007; PackageVersion: revD, Aug-2008; PackageReference: MF05A; Publisher: Altium Limited; PackageDescription: Molded SOT-23, .115 x .063 x .040 in Body, 5 Lead, .0375 in Pitch; RoHS: Y; PinCount: 5; DigiKeyPartNumber: LP5951MF-1.3CT-ND; Code_IPC: SOT23-5; ComponentLink1Description: LP5951 Datasheet; ComponentLink1URL: http://www.national.com/ds/LP/LP5951.pdf; ComponentLink2Description: LP5951 Web Page; ComponentLink2URL: http://www.national.com/pf/LP/LP5951.html; ComponentLink3Description: MF05A Package Page; ComponentLink3URL: http://www.national.com/packaging/folders/mf05a.html
footprint MF05A_N (SOT23, 5-Leads, Body 2.9x1.6mm, Pitch 0.95mm, Lead Span 2.8mm, IPC Medium Density)
footprint MF05A_L (SOT23, 5-Leads, Body 2.9x1.6mm, Pitch 0.95mm, Lead Span 2.8mm, IPC High Density)
footprint MF05A_M (SOT23, 5-Leads, Body 2.9x1.6mm, Pitch 0.95mm, Lead Span 2.8mm, IPC Low Density)
pins: 1 IN (power), 2 GND (power), 3 EN (in), 4 NC, 5 OUT (power)

## LP5951MF-1.5
designator U?
Micropower, 150mA Low-Dropout CMOS Voltage Regulator; PartNumber: LP5951MF-1.5; Manufacturer: National Semiconductor; CompType: LDO IC; PackageTopMarking: LKAB*XTT; Published: 4-Dec-2008; DatasheetVersion: May-2007; PackageVersion: revD, Aug-2008; PackageReference: MF05A; Publisher: Altium Limited; PackageDescription: Molded SOT-23, .115 x .063 x .040 in Body, 5 Lead, .0375 in Pitch; RoHS: Y; PinCount: 5; DigiKeyPartNumber: LP5951MF-1.5CT-ND; Code_IPC: SOT23-5; ComponentLink1Description: LP5951 Datasheet; ComponentLink1URL: http://www.national.com/ds/LP/LP5951.pdf; ComponentLink2Description: LP5951 Web Page; ComponentLink2URL: http://www.national.com/pf/LP/LP5951.html; ComponentLink3Description: MF05A Package Page; ComponentLink3URL: http://www.national.com/packaging/folders/mf05a.html
footprint MF05A_N (SOT23, 5-Leads, Body 2.9x1.6mm, Pitch 0.95mm, Lead Span 2.8mm, IPC Medium Density)
footprint MF05A_L (SOT23, 5-Leads, Body 2.9x1.6mm, Pitch 0.95mm, Lead Span 2.8mm, IPC High Density)
footprint MF05A_M (SOT23, 5-Leads, Body 2.9x1.6mm, Pitch 0.95mm, Lead Span 2.8mm, IPC Low Density)
pins: 1 IN (power), 2 GND (power), 3 EN (in), 4 NC, 5 OUT (power)

## LP5951MF-1.8
designator U?
Micropower, 150mA Low-Dropout CMOS Voltage Regulator; PartNumber: LP5951MF-1.8; Manufacturer: National Semiconductor; CompType: LDO IC; PackageTopMarking: LKBB*XTT; Published: 4-Dec-2008; DatasheetVersion: May-2007; PackageVersion: revD, Aug-2008; PackageReference: MF05A; Publisher: Altium Limited; PackageDescription: Molded SOT-23, .115 x .063 x .040 in Body, 5 Lead, .0375 in Pitch; RoHS: Y; PinCount: 5; DigiKeyPartNumber: LP5951MF-1.8CT-ND; Code_IPC: SOT23-5; ComponentLink1Description: LP5951 Datasheet; ComponentLink1URL: http://www.national.com/ds/LP/LP5951.pdf; ComponentLink2Description: LP5951 Web Page; ComponentLink2URL: http://www.national.com/pf/LP/LP5951.html; ComponentLink3Description: MF05A Package Page; ComponentLink3URL: http://www.national.com/packaging/folders/mf05a.html
footprint MF05A_N (SOT23, 5-Leads, Body 2.9x1.6mm, Pitch 0.95mm, Lead Span 2.8mm, IPC Medium Density)
footprint MF05A_L (SOT23, 5-Leads, Body 2.9x1.6mm, Pitch 0.95mm, Lead Span 2.8mm, IPC High Density)
footprint MF05A_M (SOT23, 5-Leads, Body 2.9x1.6mm, Pitch 0.95mm, Lead Span 2.8mm, IPC Low Density)
pins: 1 IN (power), 2 GND (power), 3 EN (in), 4 NC, 5 OUT (power)

## LP5951MF-2.0
designator U?
Micropower, 150mA Low-Dropout CMOS Voltage Regulator; PartNumber: LP5951MF-2.0; Manufacturer: National Semiconductor; CompType: LDO IC; PackageTopMarking: LKCB*XTT; Published: 4-Dec-2008; DatasheetVersion: May-2007; PackageVersion: revD, Aug-2008; PackageReference: MF05A; Publisher: Altium Limited; PackageDescription: Molded SOT-23, .115 x .063 x .040 in Body, 5 Lead, .0375 in Pitch; RoHS: Y; PinCount: 5; DigiKeyPartNumber: LP5951MF-2.0CT-ND; Code_IPC: SOT23-5; ComponentLink1Description: LP5951 Datasheet; ComponentLink1URL: http://www.national.com/ds/LP/LP5951.pdf; ComponentLink2Description: LP5951 Web Page; ComponentLink2URL: http://www.national.com/pf/LP/LP5951.html; ComponentLink3Description: MF05A Package Page; ComponentLink3URL: http://www.national.com/packaging/folders/mf05a.html
footprint MF05A_N (SOT23, 5-Leads, Body 2.9x1.6mm, Pitch 0.95mm, Lead Span 2.8mm, IPC Medium Density)
footprint MF05A_L (SOT23, 5-Leads, Body 2.9x1.6mm, Pitch 0.95mm, Lead Span 2.8mm, IPC High Density)
footprint MF05A_M (SOT23, 5-Leads, Body 2.9x1.6mm, Pitch 0.95mm, Lead Span 2.8mm, IPC Low Density)
pins: 1 IN (power), 2 GND (power), 3 EN (in), 4 NC, 5 OUT (power)

## LP5951MF-2.5
designator U?
Micropower, 150mA Low-Dropout CMOS Voltage Regulator; PartNumber: LP5951MF-2.5; Manufacturer: National Semiconductor; CompType: LDO IC; PackageTopMarking: LKEB*XTT; Published: 4-Dec-2008; DatasheetVersion: May-2007; PackageVersion: revD, Aug-2008; PackageReference: MF05A; Publisher: Altium Limited; PackageDescription: Molded SOT-23, .115 x .063 x .040 in Body, 5 Lead, .0375 in Pitch; RoHS: Y; PinCount: 5; DigiKeyPartNumber: LP5951MF-2.5CT-ND; Code_IPC: SOT23-5; ComponentLink1Description: LP5951 Datasheet; ComponentLink1URL: http://www.national.com/ds/LP/LP5951.pdf; ComponentLink2Description: LP5951 Web Page; ComponentLink2URL: http://www.national.com/pf/LP/LP5951.html; ComponentLink3Description: MF05A Package Page; ComponentLink3URL: http://www.national.com/packaging/folders/mf05a.html
footprint MF05A_N (SOT23, 5-Leads, Body 2.9x1.6mm, Pitch 0.95mm, Lead Span 2.8mm, IPC Medium Density)
footprint MF05A_L (SOT23, 5-Leads, Body 2.9x1.6mm, Pitch 0.95mm, Lead Span 2.8mm, IPC High Density)
footprint MF05A_M (SOT23, 5-Leads, Body 2.9x1.6mm, Pitch 0.95mm, Lead Span 2.8mm, IPC Low Density)
pins: 1 IN (power), 2 GND (power), 3 EN (in), 4 NC, 5 OUT (power)

## LP5951MF-2.8
designator U?
Micropower, 150mA Low-Dropout CMOS Voltage Regulator; PartNumber: LP5951MF-2.8; Manufacturer: National Semiconductor; CompType: LDO IC; PackageTopMarking: LKFB*XTT; Published: 4-Dec-2008; DatasheetVersion: May-2007; PackageVersion: revD, Aug-2008; PackageReference: MF05A; Publisher: Altium Limited; PackageDescription: Molded SOT-23, .115 x .063 x .040 in Body, 5 Lead, .0375 in Pitch; RoHS: Y; PinCount: 5; DigiKeyPartNumber: LP5951MF-2.8CT-ND; Code_IPC: SOT23-5; ComponentLink1Description: LP5951 Datasheet; ComponentLink1URL: http://www.national.com/ds/LP/LP5951.pdf; ComponentLink2Description: LP5951 Web Page; ComponentLink2URL: http://www.national.com/pf/LP/LP5951.html; ComponentLink3Description: MF05A Package Page; ComponentLink3URL: http://www.national.com/packaging/folders/mf05a.html
footprint MF05A_N (SOT23, 5-Leads, Body 2.9x1.6mm, Pitch 0.95mm, Lead Span 2.8mm, IPC Medium Density)
footprint MF05A_L (SOT23, 5-Leads, Body 2.9x1.6mm, Pitch 0.95mm, Lead Span 2.8mm, IPC High Density)
footprint MF05A_M (SOT23, 5-Leads, Body 2.9x1.6mm, Pitch 0.95mm, Lead Span 2.8mm, IPC Low Density)
pins: 1 IN (power), 2 GND (power), 3 EN (in), 4 NC, 5 OUT (power)

## LP5951MF-3.0
designator U?
Micropower, 150mA Low-Dropout CMOS Voltage Regulator; PartNumber: LP5951MF-3.0; Manufacturer: National Semiconductor; CompType: LDO IC; PackageTopMarking: LKGB*XTT; Published: 4-Dec-2008; DatasheetVersion: May-2007; PackageVersion: revD, Aug-2008; PackageReference: MF05A; Publisher: Altium Limited; PackageDescription: Molded SOT-23, .115 x .063 x .040 in Body, 5 Lead, .0375 in Pitch; RoHS: Y; PinCount: 5; DigiKeyPartNumber: LP5951MF-3.0CT-ND; Code_IPC: SOT23-5; ComponentLink1Description: LP5951 Datasheet; ComponentLink1URL: http://www.national.com/ds/LP/LP5951.pdf; ComponentLink2Description: LP5951 Web Page; ComponentLink2URL: http://www.national.com/pf/LP/LP5951.html; ComponentLink3Description: MF05A Package Page; ComponentLink3URL: http://www.national.com/packaging/folders/mf05a.html
footprint MF05A_N (SOT23, 5-Leads, Body 2.9x1.6mm, Pitch 0.95mm, Lead Span 2.8mm, IPC Medium Density)
footprint MF05A_L (SOT23, 5-Leads, Body 2.9x1.6mm, Pitch 0.95mm, Lead Span 2.8mm, IPC High Density)
footprint MF05A_M (SOT23, 5-Leads, Body 2.9x1.6mm, Pitch 0.95mm, Lead Span 2.8mm, IPC Low Density)
pins: 1 IN (power), 2 GND (power), 3 EN (in), 4 NC, 5 OUT (power)

## LP5951MF-3.3
designator U?
Micropower, 150mA Low-Dropout CMOS Voltage Regulator; PartNumber: LP5951MF-3.3; Manufacturer: National Semiconductor; CompType: LDO IC; PackageTopMarking: LKHB*XTT; Published: 4-Dec-2008; DatasheetVersion: May-2007; PackageVersion: revD, Aug-2008; PackageReference: MF05A; Publisher: Altium Limited; PackageDescription: Molded SOT-23, .115 x .063 x .040 in Body, 5 Lead, .0375 in Pitch; RoHS: Y; PinCount: 5; DigiKeyPartNumber: LP5951MF-3.3CT-ND; Code_IPC: SOT23-5; ComponentLink1Description: LP5951 Datasheet; ComponentLink1URL: http://www.national.com/ds/LP/LP5951.pdf; ComponentLink2Description: LP5951 Web Page; ComponentLink2URL: http://www.national.com/pf/LP/LP5951.html; ComponentLink3Description: MF05A Package Page; ComponentLink3URL: http://www.national.com/packaging/folders/mf05a.html
footprint MF05A_N (SOT23, 5-Leads, Body 2.9x1.6mm, Pitch 0.95mm, Lead Span 2.8mm, IPC Medium Density)
footprint MF05A_L (SOT23, 5-Leads, Body 2.9x1.6mm, Pitch 0.95mm, Lead Span 2.8mm, IPC High Density)
footprint MF05A_M (SOT23, 5-Leads, Body 2.9x1.6mm, Pitch 0.95mm, Lead Span 2.8mm, IPC Low Density)
pins: 1 IN (power), 2 GND (power), 3 EN (in), 4 NC, 5 OUT (power)

## LP5951MG-1.3
designator U?
Micropower, 150mA Low-Dropout CMOS Voltage Regulator; PartNumber: LP5951MG-1.3; Manufacturer: National Semiconductor; CompType: LDO IC; PackageTopMarking: L23*XTT; Published: 4-Dec-2008; DatasheetVersion: May-2007; PackageVersion: revD, Jun-2007; PackageReference: MAA05A; Publisher: Altium Limited; PackageDescription: Molded SC-70, 2 x 1.25 x .9mm, 5 Lead, 0.65mm Pitch; RoHS: Y; PinCount: 5; DigiKeyPartNumber: LP5951MG-1.3CT-ND; Code_JEITA: SC-88A; Code_JEDEC: MO-203-AA; Code_IPC: SOT353-5; ComponentLink1Description: LP5951 Datasheet; ComponentLink1URL: http://www.national.com/ds/LP/LP5951.pdf; ComponentLink2Description: LP5951 Web Page; ComponentLink2URL: http://www.national.com/pf/LP/LP5951.html; ComponentLink3Description: MAA05A Package Page; ComponentLink3URL: http://www.national.com/packaging/folders/maa05a.html
footprint MAA05A_N (SOT353, 5-Leads, Body 2x1.3mm, Pitch 0.65mm, Lead Span 2.1mm, IPC Medium Density)
footprint MAA05A_L (SOT353, 5-Leads, Body 2x1.3mm, Pitch 0.65mm, Lead Span 2.1mm, IPC High Density)
footprint MAA05A_M (SOT353, 5-Leads, Body 2x1.3mm, Pitch 0.65mm, Lead Span 2.1mm, IPC Low Density)
pins: 1 IN (power), 2 GND (power), 3 EN (in), 4 NC, 5 OUT (power)